# Altium schematic symbol library Temp Sensor.SchLib: 1 symbol
Pins are listed as number, name and electrical type; pins without a type are passive.

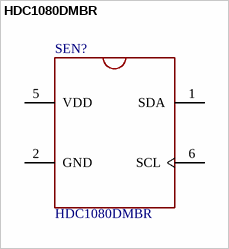
[diagram p0: symbol HDC1080DMBR]

## HDC1080DMBR
designator SEN?
Temperature and Humidity Sensor; MF: Texas Instruments; Price: None; Availability: Unavailable; SnapEDA_Link: https://www.snapeda.com/parts/HDC1080DMBR/Texas%20Instruments/view-part/472819/?ref=snap; Value: *; MP: HDC1080DMBR; Package: WSON-6 Texas Instruments; Purchase-URL: https://pricing.snapeda.com/search/part/HDC1080DMBR/?ref=eda
footprint SON100P300X300X80-7N
pins: 1 SDA, 2 GND (power), 5 VDD (power), 6 SCL